# Altium footprint library PCB - RESISTOR - ARRAY - 2506-16 CONCAVE.PcbLib: 1 footprints
Each footprint in its own frame and in the unit in brackets; x right, y up, seen from the top. Pads: shape width x height; smd on the part's side, far side on the other; paste and mask are expansions set on the pad; w line width, h text height; cw(c..) or ccw(c..) is an arc to the next point about the centre after c.
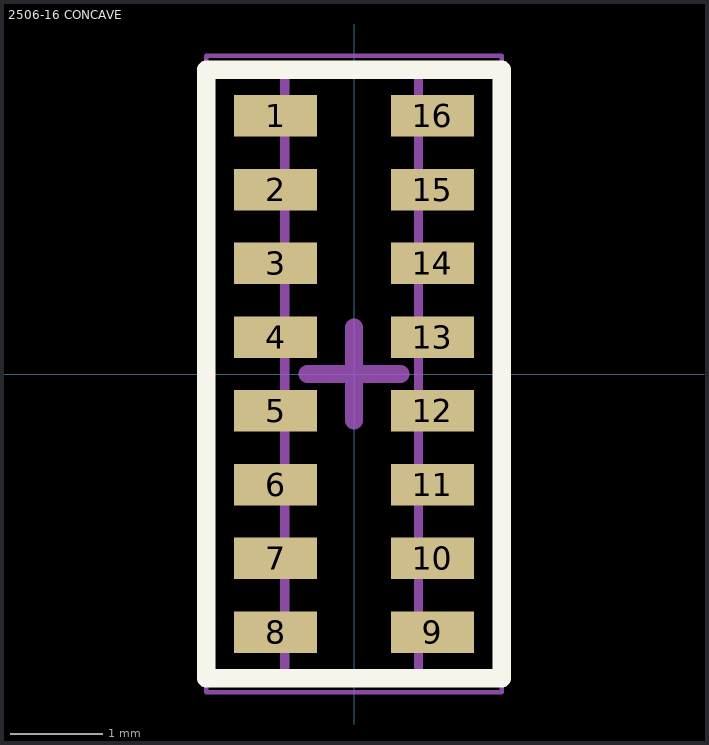
[diagram p0: the footprint, top view; thin cyan lines are the x and y axes]

## 2506-16 CONCAVE [mm] "8 resistor 6.40x1.60mm, 0.7mm high"
height 0.7
pads (16):
  rect 0.9x0.45 smd: 1(-0.85,2.8) 2(-0.85,2) 3(-0.85,1.2) 4(-0.85,0.4) 5(-0.85,-0.4) 6(-0.85,-1.2) 7(-0.85,-2) 8(-0.85,-2.8) 9(0.85,-2.8) 10(0.85,-2) 11(0.85,-1.2) 12(0.85,-0.4) 13(0.85,0.4) 14(0.85,1.2) 15(0.85,2) 16(0.85,2.8)
Top Overlay:
  lines w0.2: -1.6,-3.3 1.6,-3.3 1.6,3.3 -1.6,3.3 -1.6,-3.3
Mechanical 13 (Mech13):
  lines w0.1: -0.75,-3.25 -0.75,3.25 0.7,3.25 0.7,-3.25 -0.75,-3.25
Mechanical 15:
  lines w0.05: -1.6,-3.45 1.6,-3.45 1.6,3.45 -1.6,3.45 -1.6,-3.45
  lines w0.2: -0.5,0 0.5,0 ; 0,-0.5 0,0.5
3D body "RESNET - 2506 Concave.step": height 0.6, standoff 0, extent -0.85,-3.25 0.85,3.25